# Altium footprint library Diod.PcbLib: 392 footprints (part 1 of 25)
Each footprint in its own frame and in the unit in brackets; x right, y up, seen from the top. Pads: shape width x height; smd on the part's side, far side on the other; paste and mask are expansions set on the pad; w line width, h text height; cw(c..) or ccw(c..) is an arc to the next point about the centre after c.
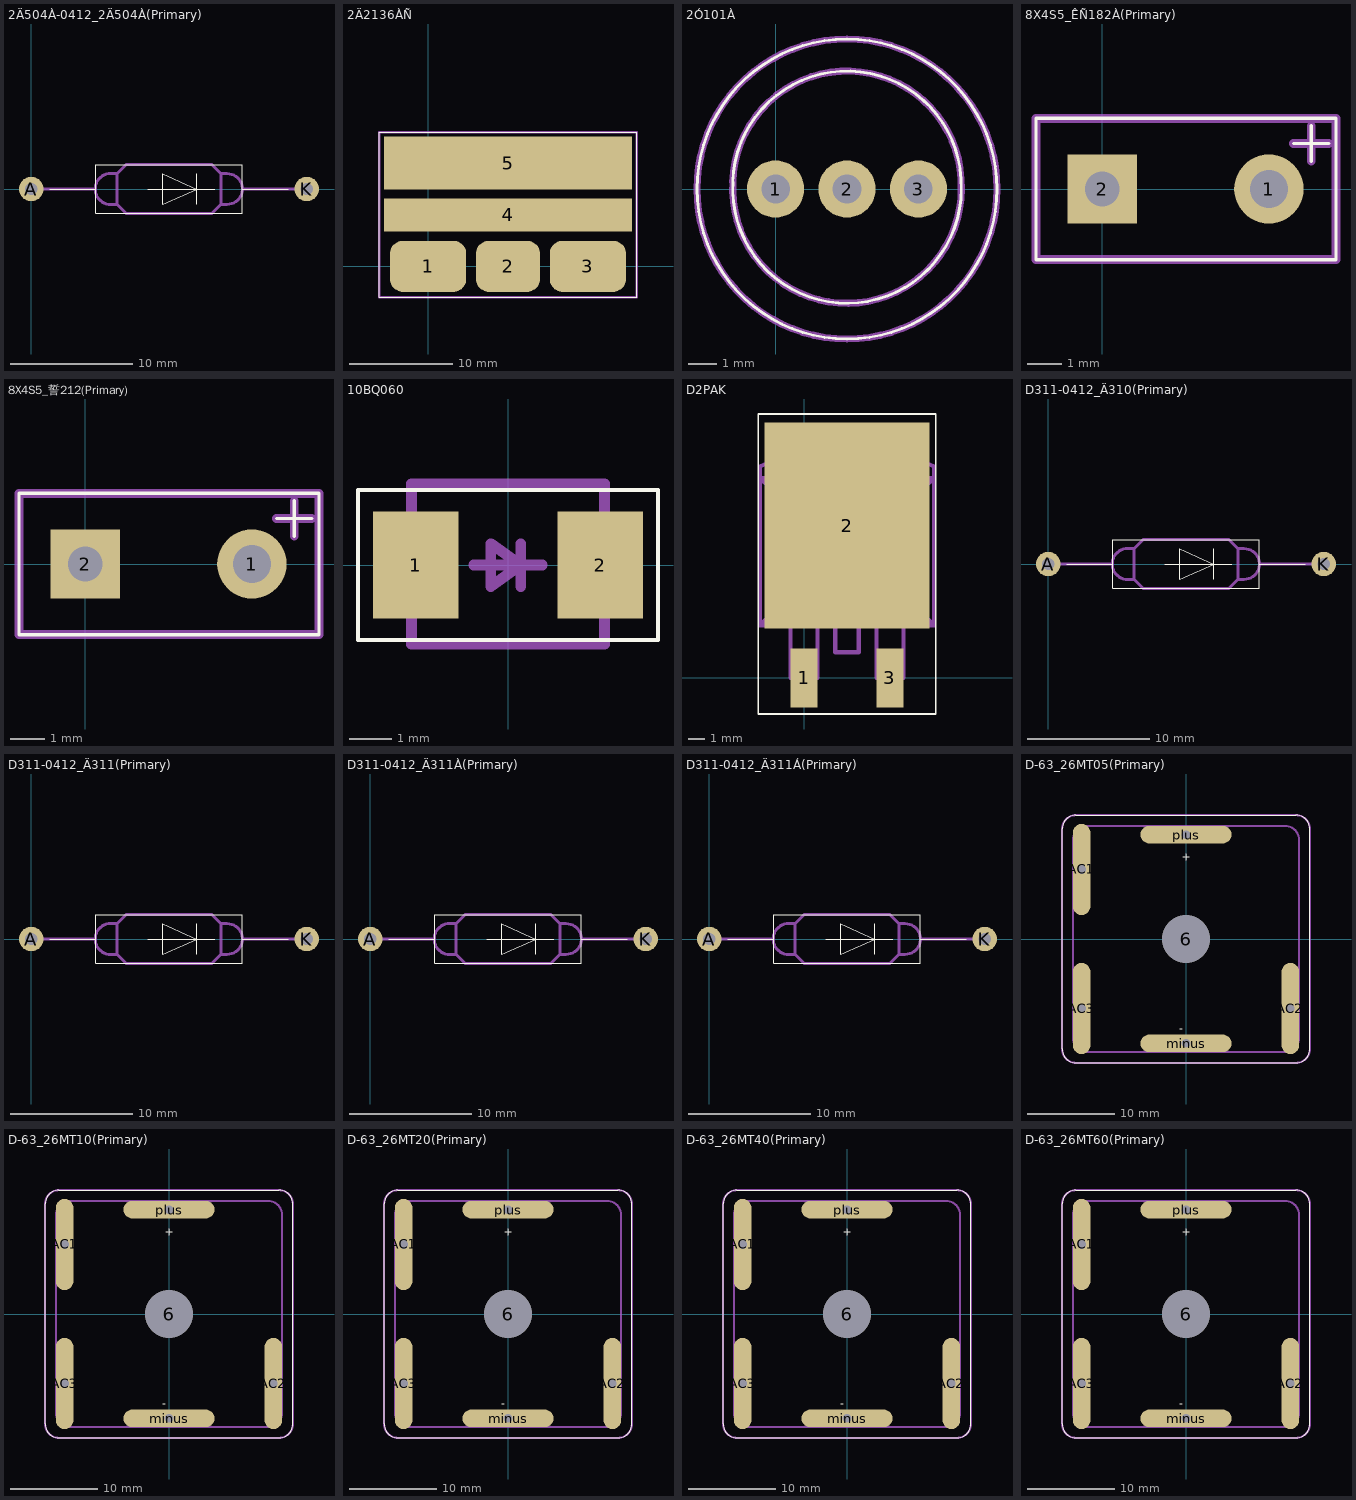
[diagram p0: the footprints below, top view; thin cyan lines are the x and y axes]

## 2Ä504À-0412_2Ä504À(Primary) [mm]
pads (2):
  round 2 hole 1: A(0,0) K(22.5,0)
Top Overlay:
  lines w0.1: 1.5,0 5.25,0 ; 9.5,0 15,0 ; 13.5,-1.25 13.5,1.25 ; 17.25,0 21,0 ; 5.25,0 5.25,-2 17.25,-2 17.25,2 5.25,2 5.25,0 ; 10.75,-1.25 13.5,0 10.75,1.25 10.75,-1.25
Mechanical 1:
  lines w0.25: 0,0 5.25,0 ; 6.5,-1.275 cw(c6.5,0) 6.5,1.275 ; 6.5,-1.25 7,-1.25 ; 6.5,1.25 7,1.25 ; 17.25,0 22.5,0 ; 7,-1.25 7.75,-2 14.75,-2 15.5,-1.25 ; 7,-1.25 7,1.25 ; 7,1.25 7.75,2 14.75,2 15.5,1.25 ; 15.5,-1.25 15.5,1.25 ; 15.5,-1.25 16,-1.25 ccw(c16,0) 16,1.25 15.5,1.25

## 2Ä2136ÀÑ [mm]
pads (5):
  rrect50% 7.4x4.96 smd: 1(0,0) 3(15.5,0)
  rrect50% 6.2x4.96 smd: 2(7.75,0)
  rect 24.1x3.2 smd: 4(7.75,5)
  rect 24.1x5.14 smd: 5(7.75,10)
Top Overlay:
  lines w0.1: -4.75,-3 20.25,-3 20.25,13 -4.75,13 -4.75,-3
Mechanical 1:
  lines w0.25: -4.75,-3 20.25,-3 20.25,13 -4.75,13 -4.75,-3

## 2Ó101À [mm]
pads (3):
  round 2 hole 1: 1(0,0) 2(2.5,0) 3(5,0)
Top Overlay:
  lines w0.1: -1.5,0.251 cw(c2.5,0.125) 6.5,0 cw(c2.5,0) -1.492,0.251 ; -2.75,0 cw(c2.5,0) 7.75,0 cw(c2.5,0) -2.75,0
Mechanical 1:
  lines w0.25: -1.5,0.251 cw(c2.5,0.125) 6.5,0 cw(c2.5,0) -1.492,0.251 ; -2.75,0 cw(c2.5,0) 7.75,0 cw(c2.5,0) -2.75,0

## 8X4S5_ÊÑ182À(Primary) [mm]
pads (2):
  round 2 hole 1.1: 1(4.8,0)
  rect 2x2 hole 1: 2(0,0)
Top Overlay:
  lines w0.1: 5.508,1.31 6.524,1.31 ; 6.016,0.802 6.016,1.818 ; -1.905,-2.032 6.731,-2.032 6.731,2.032 -1.905,2.032 -1.905,-2.032
Mechanical 1:
  lines w0.25: 5.508,1.31 6.524,1.31 ; 6.016,0.802 6.016,1.818 ; -1.905,-2.032 6.731,-2.032 6.731,2.032 -1.905,2.032 -1.905,-2.032

## 8X4S5_誓212(Primary) [mm]
pads (2):
  round 2 hole 1.1: 1(4.8,0)
  rect 2x2 hole 1: 2(0,0)
Top Overlay:
  lines w0.1: 5.508,1.31 6.524,1.31 ; 6.016,0.802 6.016,1.818 ; -1.905,-2.032 6.731,-2.032 6.731,2.032 -1.905,2.032 -1.905,-2.032
Mechanical 1:
  lines w0.25: 5.508,1.31 6.524,1.31 ; 6.016,0.802 6.016,1.818 ; -1.905,-2.032 6.731,-2.032 6.731,2.032 -1.905,2.032 -1.905,-2.032

## 10BQ060 [mm]
pads (2):
  rect 2x2.5 smd: 1(-2.15,0) 2(2.15,0)
Top Overlay:
  lines w0.1: -3.5,-1.75 3.5,-1.75 3.5,1.75 -3.5,1.75 -3.5,-1.75
Mechanical 1:
  lines w0.229: 2.287,-0.635 cw(c2.286,0) 2.287,0.635
  lines w0.25: -2.3,-0.8 -2.7,-0.8 -2.7,0.8 -2.6,0.8 -2.3,0.8 ; -0.8,0 0.8,0 ; 0.3,-0.5 0.3,0.5 ; 2.3,-0.8 2.7,-0.8 2.7,0.8 2.3,0.8 ; -2.25,-1.85 2.25,-1.85 2.25,1.9 -2.25,1.9 -2.25,-1.85 ; -0.4,-0.5 0.3,0 -0.4,0.5 -0.4,0.4 -0.4,-0.5

## D2PAK [mm]
pads (3):
  rect 1.6x3.5 smd: 1(0,0) 3(5.08,0)
  rect 9.75x12.2 smd: 2(2.54,9.017)
Top Overlay:
  lines w0.1: -2.71,-2.13 7.79,-2.13 7.79,15.62 -2.71,15.62 -2.71,-2.13
Mechanical 1:
  lines w0.25: -0.81,3.12 -0.81,0.02 0.79,0.02 0.79,3.12 ; -0.56,0.02 -0.56,-0.83 ; 0.54,0.02 0.54,-0.83 ; 1.84,3.12 1.84,1.52 2.54,1.52 3.24,1.52 3.24,3.12 ; 4.29,3.12 4.29,0.02 5.89,0.02 5.89,3.12 ; 4.54,0.02 4.54,-0.83 ; 5.64,0.02 5.64,-0.83 ; -2.61,3.12 7.69,3.12 ; -2.61,3.12 -2.61,11.82 ; -2.61,3.12 -2.11,3.62 ; -2.61,11.82 7.69,11.82 ; -2.61,11.82 -2.11,11.32 ; -2.61,11.82 -2.61,12.52 -1.01,13.22 6.09,13.22 7.69,12.52 7.69,11.82 ; -2.11,3.62 7.19,3.62 ; -2.11,3.62 -2.11,11.32 ; -2.11,11.32 7.19,11.32 ; -0.56,-0.83 -0.56,-1.48 0.54,-1.48 0.54,-0.83 ; -0.56,-0.83 0.54,-0.83 ; 4.54,-0.83 4.54,-1.48 5.64,-1.48 5.64,-0.83 ; 4.54,-0.83 5.64,-0.83 ; 7.19,3.62 7.19,11.32 ; 7.19,3.62 7.69,3.12 ; 7.19,11.32 7.69,11.82 ; 7.69,3.12 7.69,11.82

## D311-0412_Ä310(Primary) [mm]
pads (2):
  round 2 hole 1: A(0,0) K(22.5,0)
Top Overlay:
  lines w0.1: 1.5,0 5.25,0 ; 9.5,0 15,0 ; 13.5,-1.25 13.5,1.25 ; 17.25,0 21,0 ; 5.25,0 5.25,-2 17.25,-2 17.25,2 5.25,2 5.25,0 ; 10.75,-1.25 13.5,0 10.75,1.25 10.75,-1.25
Mechanical 1:
  lines w0.25: 0,0 5.25,0 ; 6.5,-1.275 cw(c6.5,0) 6.5,1.275 ; 6.5,-1.25 7,-1.25 ; 6.5,1.25 7,1.25 ; 17.25,0 22.5,0 ; 7,-1.25 7.75,-2 14.75,-2 15.5,-1.25 ; 7,-1.25 7,1.25 ; 7,1.25 7.75,2 14.75,2 15.5,1.25 ; 15.5,-1.25 15.5,1.25 ; 15.5,-1.25 16,-1.25 ccw(c16,0) 16,1.25 15.5,1.25

## D311-0412_Ä311(Primary) [mm]
pads (2):
  round 2 hole 1: A(0,0) K(22.5,0)
Top Overlay:
  lines w0.1: 1.5,0 5.25,0 ; 9.5,0 15,0 ; 13.5,-1.25 13.5,1.25 ; 17.25,0 21,0 ; 5.25,0 5.25,-2 17.25,-2 17.25,2 5.25,2 5.25,0 ; 10.75,-1.25 13.5,0 10.75,1.25 10.75,-1.25
Mechanical 1:
  lines w0.25: 0,0 5.25,0 ; 6.5,-1.275 cw(c6.5,0) 6.5,1.275 ; 6.5,-1.25 7,-1.25 ; 6.5,1.25 7,1.25 ; 17.25,0 22.5,0 ; 7,-1.25 7.75,-2 14.75,-2 15.5,-1.25 ; 7,-1.25 7,1.25 ; 7,1.25 7.75,2 14.75,2 15.5,1.25 ; 15.5,-1.25 15.5,1.25 ; 15.5,-1.25 16,-1.25 ccw(c16,0) 16,1.25 15.5,1.25

## D311-0412_Ä311À(Primary) [mm]
pads (2):
  round 2 hole 1: A(0,0) K(22.5,0)
Top Overlay:
  lines w0.1: 1.5,0 5.25,0 ; 9.5,0 15,0 ; 13.5,-1.25 13.5,1.25 ; 17.25,0 21,0 ; 5.25,0 5.25,-2 17.25,-2 17.25,2 5.25,2 5.25,0 ; 10.75,-1.25 13.5,0 10.75,1.25 10.75,-1.25
Mechanical 1:
  lines w0.25: 0,0 5.25,0 ; 6.5,-1.275 cw(c6.5,0) 6.5,1.275 ; 6.5,-1.25 7,-1.25 ; 6.5,1.25 7,1.25 ; 17.25,0 22.5,0 ; 7,-1.25 7.75,-2 14.75,-2 15.5,-1.25 ; 7,-1.25 7,1.25 ; 7,1.25 7.75,2 14.75,2 15.5,1.25 ; 15.5,-1.25 15.5,1.25 ; 15.5,-1.25 16,-1.25 ccw(c16,0) 16,1.25 15.5,1.25

## D311-0412_Ä311Á(Primary) [mm]
pads (2):
  round 2 hole 1: A(0,0) K(22.5,0)
Top Overlay:
  lines w0.1: 1.5,0 5.25,0 ; 9.5,0 15,0 ; 13.5,-1.25 13.5,1.25 ; 17.25,0 21,0 ; 5.25,0 5.25,-2 17.25,-2 17.25,2 5.25,2 5.25,0 ; 10.75,-1.25 13.5,0 10.75,1.25 10.75,-1.25
Mechanical 1:
  lines w0.25: 0,0 5.25,0 ; 6.5,-1.275 cw(c6.5,0) 6.5,1.275 ; 6.5,-1.25 7,-1.25 ; 6.5,1.25 7,1.25 ; 17.25,0 22.5,0 ; 7,-1.25 7.75,-2 14.75,-2 15.5,-1.25 ; 7,-1.25 7,1.25 ; 7,1.25 7.75,2 14.75,2 15.5,1.25 ; 15.5,-1.25 15.5,1.25 ; 15.5,-1.25 16,-1.25 ccw(c16,0) 16,1.25 15.5,1.25

## D-63_26MT05(Primary) [mm]
pads (6):
  round 5.5 hole 5.5 unplated: 6(0,0)
  oval 2x10.5 hole 1: AC1(-12,8) AC2(12,-8) AC3(-12,-8)
  oval 10.5x2 hole 1: minus(0,-12) plus(0,12)
Top Overlay:
  lines w0.1: -14.25,-12.65 ccw(c-12.65,-12.65) -12.65,-14.25 12.65,-14.25 ccw(c12.65,-12.65) 14.25,-12.65 14.25,12.65 ccw(c12.65,12.65) 12.65,14.25 -12.65,14.25 ccw(c-12.65,12.65) -14.25,12.65 -14.25,-12.65
  text "+" at -0.5,9 h0.94
  text "-" at -0.75,-10.75 h0.94
Keep-Out Layer:
  lines w0.25: -12.5,-11.75 ccw(c-12,-11.75) -11.5,-11.75 -11.5,-4.25 ccw(c-12,-4.25) -12.5,-4.25 -12.5,-11.75 ; -12.5,4.25 ccw(c-12,4.25) -11.5,4.25 -11.5,11.75 ccw(c-12,11.75) -12.5,11.75 -12.5,4.25 ; -3.75,-12.5 cw(c-3.75,-12) -3.75,-11.5 3.75,-11.5 cw(c3.75,-12) 3.75,-12.5 -3.75,-12.5 ; -3.75,11.5 cw(c-3.75,12) -3.75,12.5 3.75,12.5 cw(c3.75,12) 3.75,11.5 -3.75,11.5 ; 11.5,-11.75 ccw(c12,-11.75) 12.5,-11.75 12.5,-4.25 ccw(c12,-4.25) 11.5,-4.25 11.5,-11.75
Mechanical 1:
  lines w0.25: -14.25,-12.65 ccw(c-12.65,-12.65) -12.65,-14.25 12.65,-14.25 ccw(c12.65,-12.65) 14.25,-12.65 14.25,12.65 ccw(c12.65,12.65) 12.65,14.25 -12.65,14.25 ccw(c-12.65,12.65) -14.25,12.65 -14.25,-12.65 ; -13,-11.4 ccw(c-11.4,-11.4) -11.4,-13 11.4,-13 ccw(c11.4,-11.4) 13,-11.4 13,11.4 ccw(c11.4,11.4) 11.4,13 -11.4,13 ccw(c-11.4,11.4) -13,11.4 -13,-11.4

## D-63_26MT10(Primary) [mm]
pads (6):
  round 5.5 hole 5.5 unplated: 6(0,0)
  oval 2x10.5 hole 1: AC1(-12,8) AC2(12,-8) AC3(-12,-8)
  oval 10.5x2 hole 1: minus(0,-12) plus(0,12)
Top Overlay:
  lines w0.1: -14.25,-12.65 ccw(c-12.65,-12.65) -12.65,-14.25 12.65,-14.25 ccw(c12.65,-12.65) 14.25,-12.65 14.25,12.65 ccw(c12.65,12.65) 12.65,14.25 -12.65,14.25 ccw(c-12.65,12.65) -14.25,12.65 -14.25,-12.65
  text "+" at -0.5,9 h0.94
  text "-" at -0.75,-10.75 h0.94
Keep-Out Layer:
  lines w0.25: -12.5,-11.75 ccw(c-12,-11.75) -11.5,-11.75 -11.5,-4.25 ccw(c-12,-4.25) -12.5,-4.25 -12.5,-11.75 ; -12.5,4.25 ccw(c-12,4.25) -11.5,4.25 -11.5,11.75 ccw(c-12,11.75) -12.5,11.75 -12.5,4.25 ; -3.75,-12.5 cw(c-3.75,-12) -3.75,-11.5 3.75,-11.5 cw(c3.75,-12) 3.75,-12.5 -3.75,-12.5 ; -3.75,11.5 cw(c-3.75,12) -3.75,12.5 3.75,12.5 cw(c3.75,12) 3.75,11.5 -3.75,11.5 ; 11.5,-11.75 ccw(c12,-11.75) 12.5,-11.75 12.5,-4.25 ccw(c12,-4.25) 11.5,-4.25 11.5,-11.75
Mechanical 1:
  lines w0.25: -14.25,-12.65 ccw(c-12.65,-12.65) -12.65,-14.25 12.65,-14.25 ccw(c12.65,-12.65) 14.25,-12.65 14.25,12.65 ccw(c12.65,12.65) 12.65,14.25 -12.65,14.25 ccw(c-12.65,12.65) -14.25,12.65 -14.25,-12.65 ; -13,-11.4 ccw(c-11.4,-11.4) -11.4,-13 11.4,-13 ccw(c11.4,-11.4) 13,-11.4 13,11.4 ccw(c11.4,11.4) 11.4,13 -11.4,13 ccw(c-11.4,11.4) -13,11.4 -13,-11.4

## D-63_26MT20(Primary) [mm]
pads (6):
  round 5.5 hole 5.5 unplated: 6(0,0)
  oval 2x10.5 hole 1: AC1(-12,8) AC2(12,-8) AC3(-12,-8)
  oval 10.5x2 hole 1: minus(0,-12) plus(0,12)
Top Overlay:
  lines w0.1: -14.25,-12.65 ccw(c-12.65,-12.65) -12.65,-14.25 12.65,-14.25 ccw(c12.65,-12.65) 14.25,-12.65 14.25,12.65 ccw(c12.65,12.65) 12.65,14.25 -12.65,14.25 ccw(c-12.65,12.65) -14.25,12.65 -14.25,-12.65
  text "+" at -0.5,9 h0.94
  text "-" at -0.75,-10.75 h0.94
Keep-Out Layer:
  lines w0.25: -12.5,-11.75 ccw(c-12,-11.75) -11.5,-11.75 -11.5,-4.25 ccw(c-12,-4.25) -12.5,-4.25 -12.5,-11.75 ; -12.5,4.25 ccw(c-12,4.25) -11.5,4.25 -11.5,11.75 ccw(c-12,11.75) -12.5,11.75 -12.5,4.25 ; -3.75,-12.5 cw(c-3.75,-12) -3.75,-11.5 3.75,-11.5 cw(c3.75,-12) 3.75,-12.5 -3.75,-12.5 ; -3.75,11.5 cw(c-3.75,12) -3.75,12.5 3.75,12.5 cw(c3.75,12) 3.75,11.5 -3.75,11.5 ; 11.5,-11.75 ccw(c12,-11.75) 12.5,-11.75 12.5,-4.25 ccw(c12,-4.25) 11.5,-4.25 11.5,-11.75
Mechanical 1:
  lines w0.25: -14.25,-12.65 ccw(c-12.65,-12.65) -12.65,-14.25 12.65,-14.25 ccw(c12.65,-12.65) 14.25,-12.65 14.25,12.65 ccw(c12.65,12.65) 12.65,14.25 -12.65,14.25 ccw(c-12.65,12.65) -14.25,12.65 -14.25,-12.65 ; -13,-11.4 ccw(c-11.4,-11.4) -11.4,-13 11.4,-13 ccw(c11.4,-11.4) 13,-11.4 13,11.4 ccw(c11.4,11.4) 11.4,13 -11.4,13 ccw(c-11.4,11.4) -13,11.4 -13,-11.4

## D-63_26MT40(Primary) [mm]
pads (6):
  round 5.5 hole 5.5 unplated: 6(0,0)
  oval 2x10.5 hole 1: AC1(-12,8) AC2(12,-8) AC3(-12,-8)
  oval 10.5x2 hole 1: minus(0,-12) plus(0,12)
Top Overlay:
  lines w0.1: -14.25,-12.65 ccw(c-12.65,-12.65) -12.65,-14.25 12.65,-14.25 ccw(c12.65,-12.65) 14.25,-12.65 14.25,12.65 ccw(c12.65,12.65) 12.65,14.25 -12.65,14.25 ccw(c-12.65,12.65) -14.25,12.65 -14.25,-12.65
  text "+" at -0.5,9 h0.94
  text "-" at -0.75,-10.75 h0.94
Keep-Out Layer:
  lines w0.25: -12.5,-11.75 ccw(c-12,-11.75) -11.5,-11.75 -11.5,-4.25 ccw(c-12,-4.25) -12.5,-4.25 -12.5,-11.75 ; -12.5,4.25 ccw(c-12,4.25) -11.5,4.25 -11.5,11.75 ccw(c-12,11.75) -12.5,11.75 -12.5,4.25 ; -3.75,-12.5 cw(c-3.75,-12) -3.75,-11.5 3.75,-11.5 cw(c3.75,-12) 3.75,-12.5 -3.75,-12.5 ; -3.75,11.5 cw(c-3.75,12) -3.75,12.5 3.75,12.5 cw(c3.75,12) 3.75,11.5 -3.75,11.5 ; 11.5,-11.75 ccw(c12,-11.75) 12.5,-11.75 12.5,-4.25 ccw(c12,-4.25) 11.5,-4.25 11.5,-11.75
Mechanical 1:
  lines w0.25: -14.25,-12.65 ccw(c-12.65,-12.65) -12.65,-14.25 12.65,-14.25 ccw(c12.65,-12.65) 14.25,-12.65 14.25,12.65 ccw(c12.65,12.65) 12.65,14.25 -12.65,14.25 ccw(c-12.65,12.65) -14.25,12.65 -14.25,-12.65 ; -13,-11.4 ccw(c-11.4,-11.4) -11.4,-13 11.4,-13 ccw(c11.4,-11.4) 13,-11.4 13,11.4 ccw(c11.4,11.4) 11.4,13 -11.4,13 ccw(c-11.4,11.4) -13,11.4 -13,-11.4

## D-63_26MT60(Primary) [mm]
pads (6):
  round 5.5 hole 5.5 unplated: 6(0,0)
  oval 2x10.5 hole 1: AC1(-12,8) AC2(12,-8) AC3(-12,-8)
  oval 10.5x2 hole 1: minus(0,-12) plus(0,12)
Top Overlay:
  lines w0.1: -14.25,-12.65 ccw(c-12.65,-12.65) -12.65,-14.25 12.65,-14.25 ccw(c12.65,-12.65) 14.25,-12.65 14.25,12.65 ccw(c12.65,12.65) 12.65,14.25 -12.65,14.25 ccw(c-12.65,12.65) -14.25,12.65 -14.25,-12.65
  text "+" at -0.5,9 h0.94
  text "-" at -0.75,-10.75 h0.94
Keep-Out Layer:
  lines w0.25: -12.5,-11.75 ccw(c-12,-11.75) -11.5,-11.75 -11.5,-4.25 ccw(c-12,-4.25) -12.5,-4.25 -12.5,-11.75 ; -12.5,4.25 ccw(c-12,4.25) -11.5,4.25 -11.5,11.75 ccw(c-12,11.75) -12.5,11.75 -12.5,4.25 ; -3.75,-12.5 cw(c-3.75,-12) -3.75,-11.5 3.75,-11.5 cw(c3.75,-12) 3.75,-12.5 -3.75,-12.5 ; -3.75,11.5 cw(c-3.75,12) -3.75,12.5 3.75,12.5 cw(c3.75,12) 3.75,11.5 -3.75,11.5 ; 11.5,-11.75 ccw(c12,-11.75) 12.5,-11.75 12.5,-4.25 ccw(c12,-4.25) 11.5,-4.25 11.5,-11.75
Mechanical 1:
  lines w0.25: -14.25,-12.65 ccw(c-12.65,-12.65) -12.65,-14.25 12.65,-14.25 ccw(c12.65,-12.65) 14.25,-12.65 14.25,12.65 ccw(c12.65,12.65) 12.65,14.25 -12.65,14.25 ccw(c-12.65,12.65) -14.25,12.65 -14.25,-12.65 ; -13,-11.4 ccw(c-11.4,-11.4) -11.4,-13 11.4,-13 ccw(c11.4,-11.4) 13,-11.4 13,11.4 ccw(c11.4,11.4) 11.4,13 -11.4,13 ccw(c-11.4,11.4) -13,11.4 -13,-11.4